# Altium footprint library MDBU014A.PcbLib: 52 footprints (part 3 of 4)
Each footprint in its own frame and in the unit in brackets; x right, y up, seen from the top. Pads: shape width x height; smd on the part's side, far side on the other; paste and mask are expansions set on the pad; w line width, h text height; cw(c..) or ccw(c..) is an arc to the next point about the centre after c.
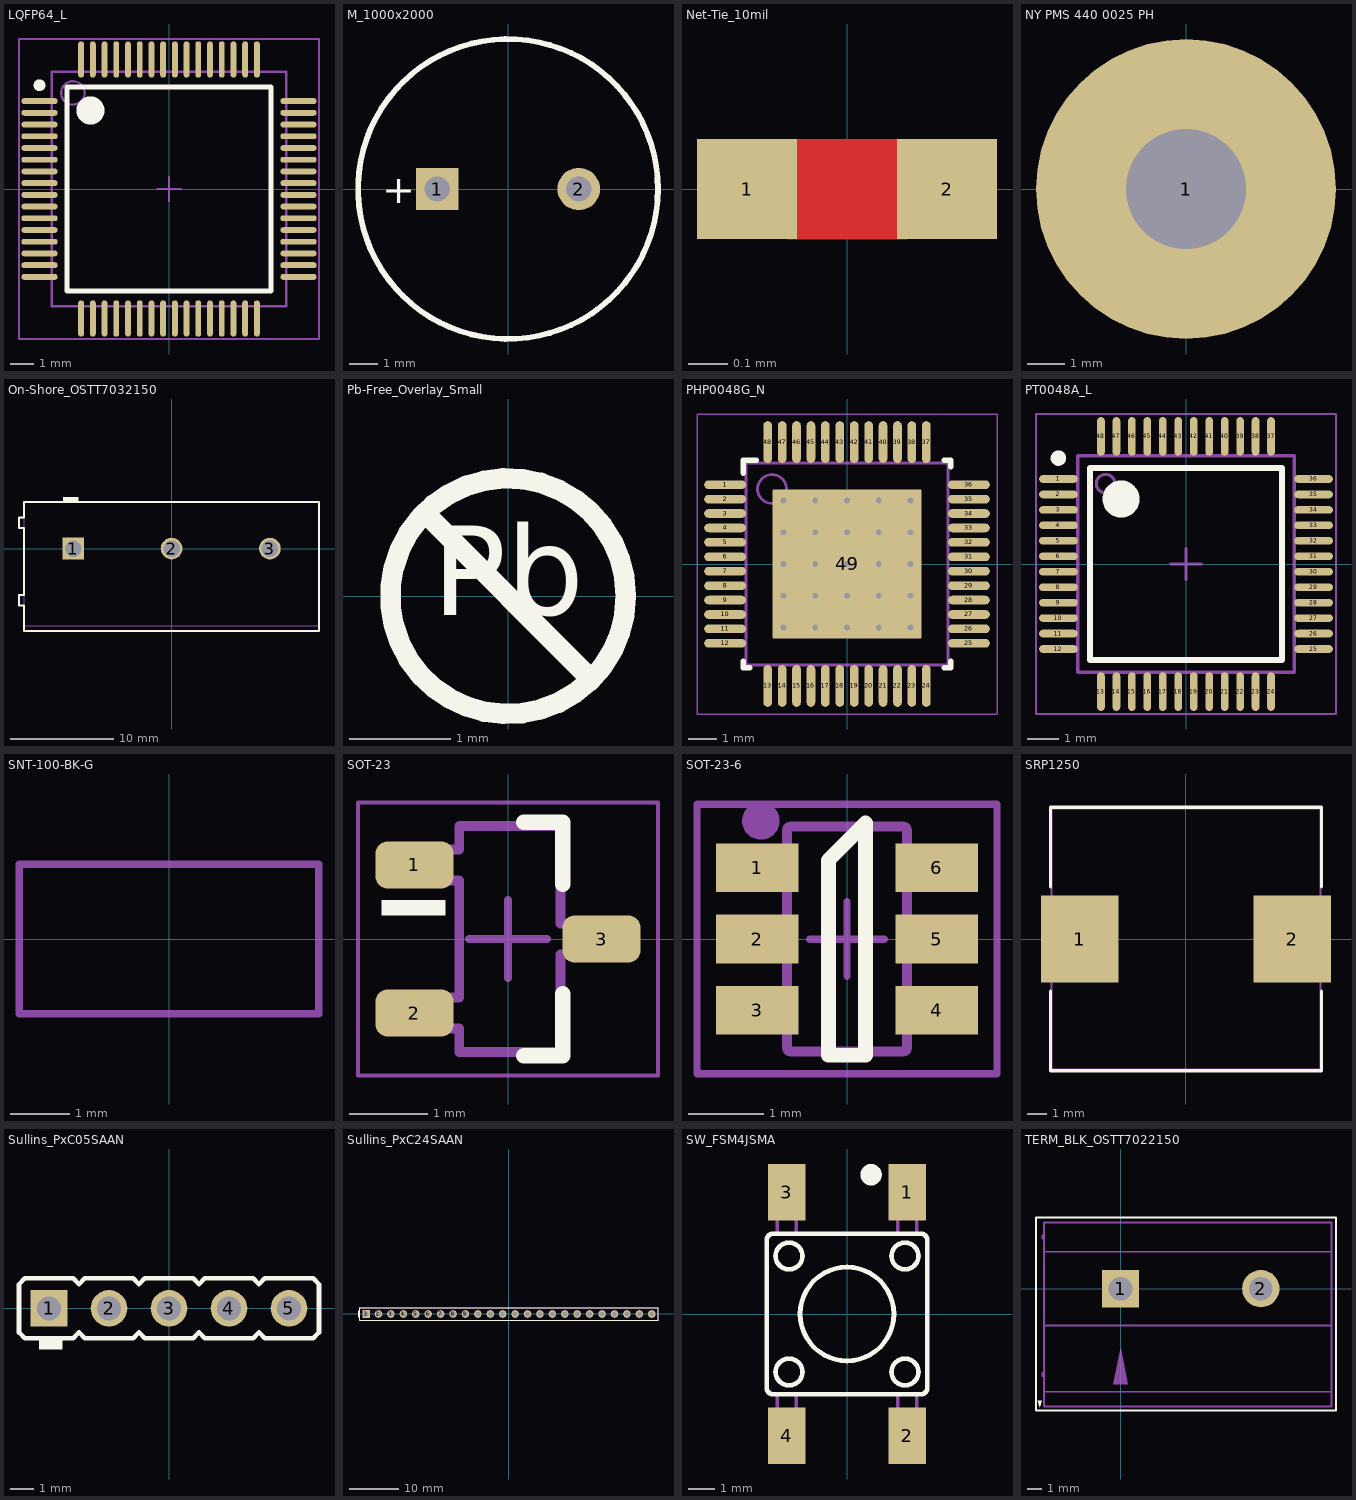
[diagram p2: the footprints below, top view; thin cyan lines are the x and y axes]

## LQFP64_L [mm]
pads (64):
  oval 1.55x0.25 smd: 1(-5.525,3.75) 2(-5.525,3.25) 3(-5.525,2.75) 4(-5.525,2.25) 5(-5.525,1.75) 6(-5.525,1.25) 7(-5.525,0.75) 8(-5.525,0.25) 9(-5.525,-0.25) 10(-5.525,-0.75) 11(-5.525,-1.25) 12(-5.525,-1.75) 13(-5.525,-2.25) 14(-5.525,-2.75) 15(-5.525,-3.25) 16(-5.525,-3.75) 33(5.525,-3.75) 34(5.525,-3.25) 35(5.525,-2.75) 36(5.525,-2.25) 37(5.525,-1.75) 38(5.525,-1.25) 39(5.525,-0.75) 40(5.525,-0.25) 41(5.525,0.25) 42(5.525,0.75) 43(5.525,1.25) 44(5.525,1.75) 45(5.525,2.25) 46(5.525,2.75) 47(5.525,3.25) 48(5.525,3.75)
  oval 0.25x1.55 smd: 17(-3.75,-5.525) 18(-3.25,-5.525) 19(-2.75,-5.525) 20(-2.25,-5.525) 21(-1.75,-5.525) 22(-1.25,-5.525) 23(-0.75,-5.525) 24(-0.25,-5.525) 25(0.25,-5.525) 26(0.75,-5.525) 27(1.25,-5.525) 28(1.75,-5.525) 29(2.25,-5.525) 30(2.75,-5.525) 31(3.25,-5.525) 32(3.75,-5.525) 49(3.75,5.525) 50(3.25,5.525) 51(2.75,5.525) 52(2.25,5.525) 53(1.75,5.525) 54(1.25,5.525) 55(0.75,5.525) 56(0.25,5.525) 57(-0.25,5.525) 58(-0.75,5.525) 59(-1.25,5.525) 60(-1.75,5.525) 61(-2.25,5.525) 62(-2.75,5.525) 63(-3.25,5.525) 64(-3.75,5.525)
Top Overlay:
  circle w0.25: c-5.525,4.425 r0.125
  circle w0.6: c-3.35,3.35 r0.3
  lines w0.2: -4.35,-4.35 -4.35,4.35 4.35,4.35 4.35,-4.35 -4.35,-4.35
Mechanical 5:
  circle w0.1: c-4.1,4.1 r0.5
  lines w0.1: -5,-5 -5,5 5,5 5,-5 -5,-5
  text ".Designator" at -1.524,-0.508 h1.02
Mechanical 15:
  lines w0.1: -0.5,0 0.5,0 ; 0,-0.5 0,0.5 ; -6.4,-6.4 -6.4,6.4 6.4,6.4 6.4,-6.4 -6.4,-6.4
3D body: height 1.6, standoff 0, extent -5,-5 5,5

## M_1000x2000 [mm]
pads (2):
  rect 1.5x1.5 hole 0.9: 1(-2.5,0)
  round 1.5 hole 0.9: 2(2.5,0)
Top Overlay:
  circle w0.2: c0,0 r5.3
  text "+" at -4.445,-0.508 h1.02
Mechanical 5:
  circle w0.1: c0,0 r5.25
  text ".Designator" at -1.8,-0.6 h1.02
  text "+" at -4.445,-0.508 h1.02
3D body "M_1000x2000.stp": height 22.01, standoff -4, extent -5.209,-5.241 5.24,5.242

## Net-Tie_10mil [mil]
pads (2):
  rect 10x10 smd paste-5 mask-5: 1(-10,0) 2(10,0)
Top Layer:
  region: -6,5 6,5 6,-5 -6,-5

## NY PMS 440 0025 PH [mm]
pads (1):
  round 8 hole 3.2: 1(0,0)
Mechanical 5:
  circle w0.127: c0,0 r3.789
  text ".Designator" at -1.524,-0.508 h1.02
3D body "B_F_NY PMS 440 0025 PH.stp": height 2.69, standoff -8.74, extent -3.302,-3.3 3.296,3.3

## On-Shore_OSTT7032150 [mm]
pads (3):
  rect 2.1x2.1 hole 1.6: 1(-9.52,0)
  round 2.1 hole 1.6: 2(0,0) 3(9.52,0)
Top Overlay:
  rectangle: -10.5,4.5 -9,5
  lines w0.2: -14.78,-5.5 -14.78,-4.5 -14.28,-4.5 -14.28,2 -14.78,2 -14.78,3 -14.28,3 -14.28,4.5 14.28,4.5 14.28,-8 -14.28,-8 -14.28,-5.5 -14.78,-5.5
Mechanical 5:
  lines w0.1: -14.28,-5.5 -14.78,-5.5 -14.78,-4.5 -14.28,-4.5 ; -14.28,2 -14.78,2 -14.78,3 -14.28,3 ; -14.28,-7.5 -14.28,-8 14.28,-8 14.28,-7.5 ; -14.28,-7.5 14.28,-7.5 ; -14.28,-7.5 -14.28,2.5 -14.28,4.5 14.28,4.5 14.28,2.5 14.28,-7.5
  text ".Designator" at -1.85,-0.5 h1.02
3D body: height 10, standoff 0, extent -14.78,2 -14.28,3
3D body: height 10, standoff 0, extent -14.78,-5.5 -14.28,-4.5
3D body "OSTT7032150.stp": height 21.5, standoff -4.2, extent -14.28,-8 14.28,4.5

## Pb-Free_Overlay_Small [mm]
Top Overlay:
  circle w0.203: c0,0 r1.168
  lines w0.203: -0.826,0.826 0.826,-0.826
  text "Pb" at -0.752,-0.48 h1.52

## PHP0048G_N [mm]
pads (49):
  oval 1.45x0.3 smd: 1(-4.225,2.75) 2(-4.225,2.25) 3(-4.225,1.75) 4(-4.225,1.25) 5(-4.225,0.75) 6(-4.225,0.25) 7(-4.225,-0.25) 8(-4.225,-0.75) 9(-4.225,-1.25) 10(-4.225,-1.75) 11(-4.225,-2.25) 12(-4.225,-2.75) 25(4.225,-2.75) 26(4.225,-2.25) 27(4.225,-1.75) 28(4.225,-1.25) 29(4.225,-0.75) 30(4.225,-0.25) 31(4.225,0.25) 32(4.225,0.75) 33(4.225,1.25) 34(4.225,1.75) 35(4.225,2.25) 36(4.225,2.75)
  oval 0.3x1.45 smd: 13(-2.75,-4.225) 14(-2.25,-4.225) 15(-1.75,-4.225) 16(-1.25,-4.225) 17(-0.75,-4.225) 18(-0.25,-4.225) 19(0.25,-4.225) 20(0.75,-4.225) 21(1.25,-4.225) 22(1.75,-4.225) 23(2.25,-4.225) 24(2.75,-4.225) 37(2.75,4.225) 38(2.25,4.225) 39(1.75,4.225) 40(1.25,4.225) 41(0.75,4.225) 42(0.25,4.225) 43(-0.25,4.225) 44(-0.75,4.225) 45(-1.25,4.225) 46(-1.75,4.225) 47(-2.25,4.225) 48(-2.75,4.225)
  rrect2% 5.17x5.17 smd: 49(0,0)
via 2.2,-2.2 diameter 0.5 hole 0.2
via 1.1,-2.2 diameter 0.5 hole 0.2
via 0,-2.2 diameter 0.5 hole 0.2
via -1.1,-2.2 diameter 0.5 hole 0.2
via -2.2,-2.2 diameter 0.5 hole 0.2
via 2.2,-1.1 diameter 0.5 hole 0.2
via 1.1,-1.1 diameter 0.5 hole 0.2
via 0,-1.1 diameter 0.5 hole 0.2
via -1.1,-1.1 diameter 0.5 hole 0.2
via -2.2,-1.1 diameter 0.5 hole 0.2
via 2.2,0 diameter 0.5 hole 0.2
via 1.1,0 diameter 0.5 hole 0.2
via 0,0 diameter 0.5 hole 0.2
via -1.1,0 diameter 0.5 hole 0.2
via -2.2,0 diameter 0.5 hole 0.2
via 2.2,1.1 diameter 0.5 hole 0.2
via 1.1,1.1 diameter 0.5 hole 0.2
via 0,1.1 diameter 0.5 hole 0.2
via -1.1,1.1 diameter 0.5 hole 0.2
via -2.2,1.1 diameter 0.5 hole 0.2
via 2.2,2.2 diameter 0.5 hole 0.2
via 1.1,2.2 diameter 0.5 hole 0.2
via 0,2.2 diameter 0.5 hole 0.2
via -1.1,2.2 diameter 0.5 hole 0.2
via -2.2,2.2 diameter 0.5 hole 0.2
Top Overlay:
  lines w0.2: -3.6,-3.375 -3.6,-3.6 -3.375,-3.6 ; -3.6,3.15 -3.6,3.6 -3.15,3.6 ; 3.375,-3.6 3.6,-3.6 3.6,-3.375 ; 3.375,3.6 3.6,3.6 3.6,3.375
Mechanical 5:
  text ".Designator" at -1.854,-0.508 h1.02
Mechanical 13:
  circle w0.1: c-2.6,2.6 r0.5
  lines w0.1: -3.5,-3.5 3.5,-3.5 3.5,3.5 -3.5,3.5 -3.5,-3.5
Mechanical 15:
  lines w0.05: -5.2,-5.2 5.2,-5.2 5.2,5.2 -5.2,5.2 -5.2,-5.2
  lines w0.1: -0.5,0 0.5,0 ; 0,-0.5 0,0.5
3D body "PHP0048G.stp": height 1.2, standoff 0, extent -4.507,-4.507 4.507,4.507

## PT0048A_L [mm]
pads (48):
  oval 1.25x0.25 smd: 1(-4.125,2.75) 2(-4.125,2.25) 3(-4.125,1.75) 4(-4.125,1.25) 5(-4.125,0.75) 6(-4.125,0.25) 7(-4.125,-0.25) 8(-4.125,-0.75) 9(-4.125,-1.25) 10(-4.125,-1.75) 11(-4.125,-2.25) 12(-4.125,-2.75) 25(4.125,-2.75) 26(4.125,-2.25) 27(4.125,-1.75) 28(4.125,-1.25) 29(4.125,-0.75) 30(4.125,-0.25) 31(4.125,0.25) 32(4.125,0.75) 33(4.125,1.25) 34(4.125,1.75) 35(4.125,2.25) 36(4.125,2.75)
  oval 0.25x1.25 smd: 13(-2.75,-4.125) 14(-2.25,-4.125) 15(-1.75,-4.125) 16(-1.25,-4.125) 17(-0.75,-4.125) 18(-0.25,-4.125) 19(0.25,-4.125) 20(0.75,-4.125) 21(1.25,-4.125) 22(1.75,-4.125) 23(2.25,-4.125) 24(2.75,-4.125) 37(2.75,4.125) 38(2.25,4.125) 39(1.75,4.125) 40(1.25,4.125) 41(0.75,4.125) 42(0.25,4.125) 43(-0.25,4.125) 44(-0.75,4.125) 45(-1.25,4.125) 46(-1.75,4.125) 47(-2.25,4.125) 48(-2.75,4.125)
Top Overlay:
  circle w0.25: c-4.125,3.425 r0.125
  circle w0.6: c-2.1,2.1 r0.3
  lines w0.2: -3.1,-3.1 -3.1,3.1 3.1,3.1 3.1,-3.1 -3.1,-3.1
Mechanical 5:
  circle w0.1: c-2.6,2.6 r0.3
  lines w0.1: -3.5,-3.5 -3.5,3.5 3.5,3.5 3.5,-3.5 -3.5,-3.5
  text ".Designator" at -1.854,-0.508 h1.02
Mechanical 15:
  lines w0.05: -4.85,-4.85 -4.85,4.85 4.85,4.85 4.85,-4.85 -4.85,-4.85
  lines w0.1: -0.5,0 0.5,0 ; 0,-0.5 0,0.5
3D body "PT0048A.stp": height 1.5, standoff 0, extent -4.508,-4.508 4.508,4.508

## SNT-100-BK-G [mil]
pads (1):
  round 1 on Mech3: 0(0,0)
Mechanical 5:
  lines w5: -100,-50 -100,50 100,50 100,-50 -100,-50
3D body "SNT-100-XX-X.stp": height 344, standoff 104, extent -100,-50.05 100,50.05

## SOT-23 [mm]
pads (3):
  rrect50% 1x0.6 smd: 1(-1.2,0.95) 2(-1.2,-0.95) 3(1.2,0)
Top Overlay:
  rectangle: -1.625,0.3 -0.8,0.5
  lines w0.2: 0.2,-1.5 0.7,-1.5 0.7,-0.7 ; 0.2,1.5 0.7,1.5 0.7,0.7
Mechanical 5:
  lines w0.127: -1.16,-1.15 -1.16,-0.75 -0.625,-0.75 -0.625,0.75 -1.16,0.75 -1.16,1.15 -0.625,1.15 -0.625,1.45 0.675,1.45 0.675,0.2 1.21,0.2 1.21,-0.2 0.675,-0.2 0.675,-1.45 -0.625,-1.45 -0.625,-1.15 -1.16,-1.15
  text ".Designator" at -0.175,1.225 h0.64
Mechanical 15:
  lines w0.05: -1.925,-1.75 1.925,-1.75 1.925,1.75 -1.925,1.75 -1.925,-1.75
  lines w0.1: -0.5,0 0.5,0 ; 0,-0.5 0,0.5
3D body "SW3dPS-sot-3p290x130ll237h100.STEP": height 1, standoff 0, extent -1.16,-1.45 1.21,1.45

## SOT-23-6 [mm]
pads (6):
  rect 1.1x0.65 smd: 1(-1.2,0.95) 2(-1.2,0) 3(-1.2,-0.95) 4(1.2,-0.95) 5(1.2,0) 6(1.2,0.95)
Top Overlay:
  lines w0.2: -0.25,-1.55 0.25,-1.55 0.25,1.55 -0.25,1.05 -0.25,-1.55
Mechanical 5:
  circle w0.25: c-1.15,1.575 r0.125
  lines w0.127: -0.8,-1.45 ccw(c-0.75,-1.45) -0.75,-1.5 ; -0.8,-1.45 -0.8,-1.2 ; -0.8,-1.45 -0.8,-1.45 ; -0.8,-1.2 -0.812,-1.2 -1.109,-1.2 -1.166,-1.2 -1.265,-1.2 -1.5,-1.2 -1.5,-0.7 -1.265,-0.7 -1.166,-0.7 -1.109,-0.7 -0.812,-0.7 -0.8,-0.7 ; -0.8,-1.2 -0.8,-0.7 ; -0.8,-0.7 -0.8,-0.25 ; -0.8,-0.25 -0.812,-0.25 -1.109,-0.25 -1.166,-0.25 -1.265,-0.25 -1.5,-0.25 -1.5,0.25 -1.265,0.25 -1.166,0.25 -1.109,0.25 -0.812,0.25 -0.8,0.25 ; -0.8,-0.25 -0.8,0.25 ; -0.8,0.25 -0.8,0.7 ; -0.8,0.7 -0.812,0.7 -1.109,0.7 -1.166,0.7 -1.265,0.7 -1.5,0.7 -1.5,1.2 -1.265,1.2 -1.166,1.2 -1.109,1.2 -0.812,1.2 -0.8,1.2 ; -0.8,0.7 -0.8,1.2 ; -0.8,1.2 -0.8,1.45 ; -0.8,1.45 cw(c-0.75,1.45) -0.75,1.5 ; -0.8,1.45 -0.8,1.45 ; -0.75,-1.5 -0.75,-1.5 ; -0.75,-1.5 0.75,-1.5 ; -0.75,1.5 0.75,1.5 ; -0.75,1.5 -0.75,1.5 ; 0.75,-1.5 ccw(c0.75,-1.45) 0.8,-1.45 ; 0.75,-1.5 0.75,-1.5 ; 0.75,1.5 cw(c0.75,1.45) 0.8,1.45 ; 0.75,1.5 0.75,1.5 ; 0.8,-1.45 0.8,-1.2 ; 0.8,-1.45 0.8,-1.45 ; 0.8,-1.2 0.8,-0.7 ; 0.8,-1.2 0.812,-1.2 1.109,-1.2 1.166,-1.2 1.265,-1.2 1.5,-1.2 1.5,-0.7 1.265,-0.7 1.166,-0.7 1.109,-0.7 0.812,-0.7 0.8,-0.7 ; 0.8,-0.7 0.8,-0.25 ; 0.8,-0.25 0.812,-0.25 1.109,-0.25 1.166,-0.25 1.265,-0.25 1.5,-0.25 1.5,0.25 1.265,0.25 1.166,0.25 1.109,0.25 0.812,0.25 0.8,0.25 ; 0.8,-0.25 0.8,0.25 ; 0.8,0.25 0.8,0.7 ; 0.8,0.7 0.8,1.2 ; 0.8,0.7 0.812,0.7 1.109,0.7 1.166,0.7 1.265,0.7 1.5,0.7 1.5,1.2 1.265,1.2 1.166,1.2 1.109,1.2 0.812,1.2 0.8,1.2 ; 0.8,1.2 0.8,1.45 ; 0.8,1.45 0.8,1.45
  text ".Designator" at -0.3,1.2 h0.64
Mechanical 15:
  lines w0.1: -0.5,0 0.5,0 ; 0,-0.5 0,0.5 ; -2,-1.8 -2,1.8 2,1.8 2,-1.8 -2,-1.8
3D body "SOT23-6.stp": height 1.3, standoff 0, extent -1.5,-1.5 1.5,1.5

## SRP1250 [mm]
pads (2):
  rect 4x4.5 smd: 1(-5.5,0) 2(5.5,0)
Top Overlay:
  lines w0.17: -7,-2.7 -7,-6.8 7,-6.8 7,-2.7 ; -7,2.7 -7,6.8 -6.4,6.8 7,6.8 7,2.7
Mechanical 5:
  lines w0.1: -6.95,-6.75 -6.95,6.75 6.95,6.75 6.95,-6.75 -6.95,-6.75
  text ".Designator" at -1.8,-0.5 h1.02
3D body: height 5.9, standoff 0, extent -6.949,-6.749 6.949,6.749

## Sullins_PxC05SAAN [mm]
pads (5):
  rect 1.55x1.55 hole 1.016: 1(-5.08,0)
  round 1.55 hole 1.016: 2(-2.54,0) 3(0,0) 4(2.54,0) 5(5.08,0)
Top Overlay:
  rectangle: -5.5,-1.75 -4.5,-1.27
  lines w0.2: -6.35,-1.02 -6.35,1.02 -6.1,1.27 -4.06,1.27 -3.81,1.02 -3.56,1.27 -1.52,1.27 -1.27,1.02 -1.02,1.27 1.02,1.27 1.27,1.02 1.52,1.27 3.56,1.27 3.81,1.02 4.06,1.27 6.1,1.27 6.35,1.02 6.35,-1.02 6.1,-1.27 4.06,-1.27 3.81,-1.02 3.56,-1.27 1.52,-1.27 1.27,-1.02 1.02,-1.27 -1.02,-1.27 -1.27,-1.02 -1.52,-1.27 -3.56,-1.27 -3.81,-1.02 -4.06,-1.27 -6.1,-1.27 -6.35,-1.02
Mechanical 5:
  lines w0.1: -6.35,-1.02 -6.1,-1.27 -4.06,-1.27 -3.81,-1.02 -3.56,-1.27 -1.52,-1.27 -1.27,-1.02 -1.02,-1.27 1.02,-1.27 1.27,-1.02 1.52,-1.27 3.56,-1.27 3.81,-1.02 4.06,-1.27 6.1,-1.27 6.35,-1.02 6.35,1.02 6.1,1.27 4.06,1.27 3.81,1.02 3.56,1.27 1.52,1.27 1.27,1.02 1.02,1.27 -1.02,1.27 -1.27,1.02 -1.52,1.27 -3.56,1.27 -3.81,1.02 -4.06,1.27 -6.1,1.27 -6.35,1.02 -6.35,-1.02
  text ".Designator" at -2,-0.5 h1.02
3D body "PEC05SAAN.stp": height 5.84, standoff -3.05, extent -6.35,-1.27 6.35,1.27

## Sullins_PxC24SAAN [mm]
pads (24):
  rect 1.55x1.55 hole 1.016: 1(-29.21,0)
  round 1.55 hole 1.016: 2(-26.67,0) 3(-24.13,0) 4(-21.59,0) 5(-19.05,0) 6(-16.51,0) 7(-13.97,0) 8(-11.43,0) 9(-8.89,0) 10(-6.35,0) 11(-3.81,0) 12(-1.27,0) 13(1.27,0) 14(3.81,0) 15(6.35,0) 16(8.89,0) 17(11.43,0) 18(13.97,0) 19(16.51,0) 20(19.05,0) 21(21.59,0) 22(24.13,0) 23(26.67,0) 24(29.21,0)
Top Overlay:
  rectangle: -30.861,-0.762 -30.48,0.762
  lines w0.2: -30.49,-1.28 30.49,-1.28 30.49,1.28 -30.49,1.28 -30.49,-1.28
Mechanical 5:
  lines w0.1: -30.49,-1.28 -30.49,1.28 30.49,1.28 30.49,-1.28 -30.49,-1.28
  text ".Designator" at -1.778,-0.508 h1.02
3D body: height 2.56, standoff 0, extent -30.49,-1.28 30.49,1.28
3D body: height 8.6, standoff -3.3, extent -29.53,-0.32 -28.89,0.32
3D body: height 8.6, standoff -3.3, extent -26.99,-0.32 -26.35,0.32
3D body: height 8.6, standoff -3.3, extent -24.45,-0.32 -23.81,0.32
3D body: height 8.6, standoff -3.3, extent -21.91,-0.32 -21.27,0.32
3D body: height 8.6, standoff -3.3, extent -19.37,-0.32 -18.73,0.32
3D body: height 8.6, standoff -3.3, extent -16.83,-0.32 -16.19,0.32
3D body: height 8.6, standoff -3.3, extent -1.59,-0.32 -0.95,0.32
3D body: height 8.6, standoff -3.3, extent -4.13,-0.32 -3.49,0.32
3D body: height 8.6, standoff -3.3, extent -6.67,-0.32 -6.03,0.32
3D body: height 8.6, standoff -3.3, extent -9.21,-0.32 -8.57,0.32
3D body: height 8.6, standoff -3.3, extent -11.75,-0.32 -11.11,0.32
3D body: height 8.6, standoff -3.3, extent -14.29,-0.32 -13.65,0.32
3D body: height 8.6, standoff -3.3, extent 13.65,-0.32 14.29,0.32
3D body: height 8.6, standoff -3.3, extent 11.11,-0.32 11.75,0.32
3D body: height 8.6, standoff -3.3, extent 8.57,-0.32 9.21,0.32
3D body: height 8.6, standoff -3.3, extent 6.03,-0.32 6.67,0.32
3D body: height 8.6, standoff -3.3, extent 3.49,-0.32 4.13,0.32
3D body: height 8.6, standoff -3.3, extent 0.95,-0.32 1.59,0.32
3D body: height 8.6, standoff -3.3, extent 28.89,-0.32 29.53,0.32
3D body: height 8.6, standoff -3.3, extent 26.35,-0.32 26.99,0.32
3D body: height 8.6, standoff -3.3, extent 23.81,-0.32 24.45,0.32
3D body: height 8.6, standoff -3.3, extent 21.27,-0.32 21.91,0.32
3D body: height 8.6, standoff -3.3, extent 18.73,-0.32 19.37,0.32
3D body: height 8.6, standoff -3.3, extent 16.19,-0.32 16.83,0.32

## SW_FSM4JSMA [mm]
pads (4):
  rect 1.4x2.1 smd: 1(2.25,4.55) 2(2.25,-4.55) 3(-2.25,4.55) 4(-2.25,-4.55)
Top Overlay:
  circle w0.4: c0.9,5.2 r0.2
  lines w0.178: -3,-2.75 ccw(c-2.75,-2.75) -2.75,-3 2.75,-3 ccw(c2.75,-2.75) 3,-2.75 3,2.75 ccw(c2.75,2.75) 2.75,3 -2.75,3 ccw(c-2.75,2.75) -3,2.75 -3,-2.75 ; -2.665,-2.165 ccw(c-2.165,-2.165) -1.665,-2.165 ccw(c-2.165,-2.165) -2.665,-2.165 ; -2.665,2.165 ccw(c-2.165,2.165) -1.665,2.165 ccw(c-2.165,2.165) -2.665,2.165 ; -1.75,0 ccw(c0,0) 1.75,0 ccw(c0,0) -1.75,0 ; 1.665,-2.165 cw(c2.165,-2.165) 2.665,-2.165 cw(c2.165,-2.165) 1.665,-2.165 ; 1.665,2.165 ccw(c2.165,2.165) 2.665,2.165 ccw(c2.165,2.165) 1.665,2.165
Mechanical 5:
  lines w0.127: -2.6,-3 -2.6,-3.4 -2.6,-3.95 ; -2.6,3 -2.6,3.4 -2.6,3.95 ; -1.9,-3 -1.9,-3.4 -1.9,-3.95 ; -1.9,3 -1.9,3.4 -1.9,3.95 ; 1.9,-3 1.9,-3.4 1.9,-3.95 ; 1.9,3 1.9,3.4 1.9,3.95 ; 2.6,-3 2.6,-3.4 2.6,-3.95 ; 2.6,3 2.6,3.4 2.6,3.95 ; -2.6,-3.95 -1.9,-3.95 ; -2.6,-3.95 -2.6,-4.2 -2.6,-5 -1.9,-5 -1.9,-4.2 -1.9,-3.95 ; -2.6,3.95 -1.9,3.95 ; -2.6,3.95 -2.6,4.2 -2.6,5 -1.9,5 -1.9,4.2 -1.9,3.95 ; 1.9,-3.95 2.6,-3.95 ; 1.9,-3.95 1.9,-4.2 1.9,-5 2.6,-5 2.6,-4.2 2.6,-3.95 ; 1.9,3.95 2.6,3.95 ; 1.9,3.95 1.9,4.2 1.9,5 2.6,5 2.6,4.2 2.6,3.95 ; -3,-2.75 ccw(c-2.75,-2.75) -2.75,-3 2.75,-3 ccw(c2.75,-2.75) 3,-2.75 3,2.75 ccw(c2.75,2.75) 2.75,3 -2.75,3 ccw(c-2.75,2.75) -3,2.75 -3,-2.75 ; -2.665,-2.165 cw(c-2.165,-2.165) -1.665,-2.165 cw(c-2.165,-2.165) -2.665,-2.165 ; -2.665,2.165 cw(c-2.165,2.165) -1.665,2.165 cw(c-2.165,2.165) -2.665,2.165 ; -1.75,0 cw(c0,0) 1.75,0 cw(c0,0) -1.75,0 ; 1.665,-2.165 ccw(c2.165,-2.165) 2.665,-2.165 ccw(c2.165,-2.165) 1.665,-2.165 ; 1.665,2.165 cw(c2.165,2.165) 2.665,2.165 cw(c2.165,2.165) 1.665,2.165
  text ".Designator" at -1.4,-0.4 h0.76
3D body "C-4-1437565-1.stp": height 5.1, standoff 0.02, extent -3,-5 3,5

## TERM_BLK_OSTT7022150 [mm]
pads (2):
  rect 2.54x2.54 hole 1.6: 1(0,0)
  round 2.54 hole 1.6: 2(9.525,0)
Top Overlay:
  region: -5.483,-8.048 -5.33,-7.616 -5.61,-7.616
  lines w0.127: -5.737,-8.276 14.63,-8.276 14.63,4.83 -5.737,4.83 -5.737,3.941 -5.737,3.103 -5.737,-5.381 -5.737,-6.219 -5.737,-8.276
Mechanical 5:
  circle w0.127: c0,0 r0.4
  circle w0.127: c9.52,0 r0.4
  region: -0.5,-6.5 0,-4 0.5,-6.5
  lines w0.127: -5.2,-7 14.325,-7 ; -5.2,-5.925 -5.3,-5.925 -5.3,-5.725 -5.2,-5.725 ; -5.2,-2.5 14.325,-2.5 ; -5.2,2.5 14.325,2.5 ; -5.2,3.4 -5.3,3.4 -5.3,3.6 -5.2,3.6 ; -5.2,-8 14.325,-8 14.325,4.5 -5.2,4.5 -5.2,-8
  text ".Designator" at 2.845,-0.711 h1.02
3D body: height 0, standoff -4.2, extent 9.024,-0.499 10.02,0.499
3D body: height 0, standoff -4.2, extent -0.496,-0.499 0.5,0.499
3D body: height 11, standoff 0, extent -5.3,3.4 -5.2,3.6
3D body: height 12, standoff 0, extent -5.3,-5.925 -5.2,-5.725
3D body: height 21.5, standoff 0, extent -5.2,-2.5 14.325,2.5
3D body: height 11, standoff 0, extent -5.2,2.5 14.325,4.5
3D body: height 12, standoff 10, extent -5.2,-8 14.325,-2.5
3D body: height 21.6, standoff 1.6, extent -2.232,-2.245 2.25,2.246
3D body: height 21.6, standoff 1.6, extent 7.293,-2.245 11.775,2.246
3D body: height 2, standoff 0, extent -5.195,-8 14.325,-2.5
3D body: height 12, standoff 0, extent -5.2,-8 -2.6,-2.5
3D body: height 12, standoff 0, extent 2.6,-8 4.76,-2.5
3D body: height 12, standoff 0, extent 4.76,-8 6.92,-2.5
3D body: height 12, standoff 0, extent 12.125,-8 14.325,-2.5